# Altium schematic symbol library TAG-ICD.Schlib: 1 symbol
Pins are listed as number, name and electrical type; pins without a type are passive.

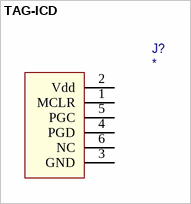
[diagram p0: symbol TAG-ICD]

## TAG-ICD
designator J?
pins: 1 MCLR, 2 Vdd, 3 GND, 4 PGD, 5 PGC, 6 NC